# Altium footprint library ISL6236A_DEMO.PcbLib: 4 footprints
Each footprint in its own frame and in the unit in brackets; x right, y up, seen from the top. Pads: shape width x height; smd on the part's side, far side on the other; paste and mask are expansions set on the pad; w line width, h text height; cw(c..) or ccw(c..) is an arc to the next point about the centre after c.
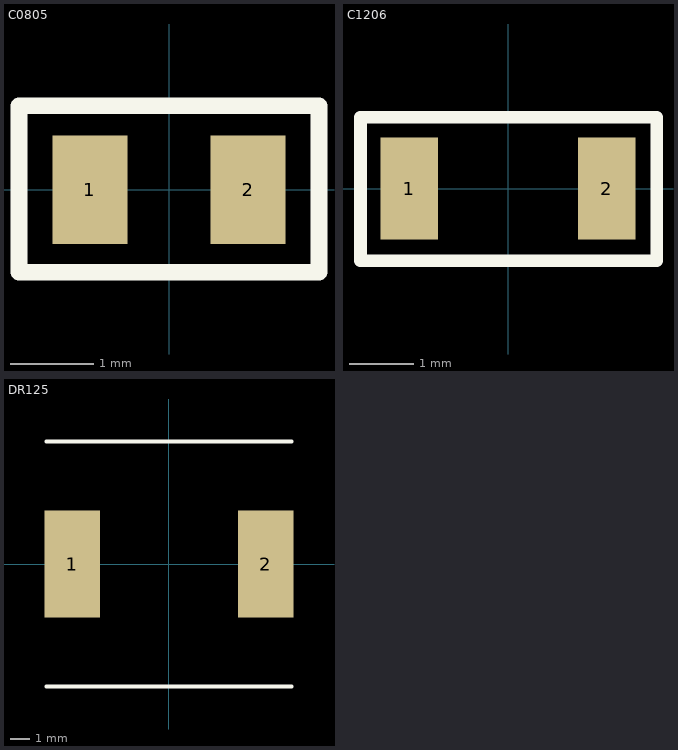
[diagram p0: the footprints below, top view; thin cyan lines are the x and y axes]

## C0805 [mm]
pads (2):
  rect 0.9x1.3 smd mask+0.1: 1(-0.95,0) 2(0.95,0)
Top Overlay:
  lines w0.2: -1.8,-0.99 1.8,-0.99 1.8,1.01 -1.8,1.01 -1.8,-0.99

## C1206 [mm]
pads (2):
  rect 0.9x1.6 smd mask+0.1: 1(-1.55,0) 2(1.55,0)
Top Overlay:
  lines w0.2: -2.31,-1.13 -2.31,1.12 2.33,1.12 2.33,-1.13 -2.31,-1.13

## DR125 [mm]
pads (2):
  rect 2.85x5.5 smd: 1(-4.975,0) 2(4.975,0)
Top Overlay:
  lines w0.2: -6.3,-6.3 6.3,-6.3 ; -6.3,6.3 6.3,6.3

## PCBComponent_1 [mm]